# EAGLE library part PIC16F1825-I/SL (library Farnell-Microchip-PIC16F1825-I_SL)
IC, 8BIT MCU, PIC16F, 32MHz, SOIC-14
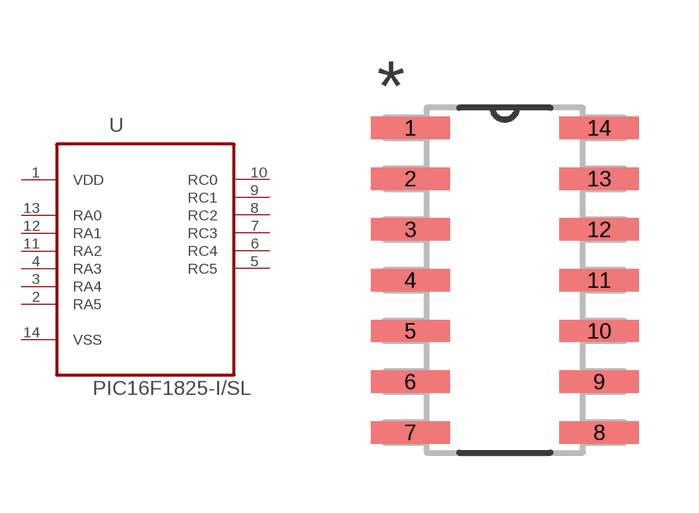
[diagram p0: symbol with the pads of SOIC127P600X175-14N; footprint SOIC127P600X175-14N]

Designator prefix U

## PIC16F1825-I/SL (MPN: PIC16F1825-I/SL; OC_FARNELL: 1841448; OC_NEWARK: 82R4372; PACKAGE: SOIC-14; SUPPLIER: Microchip)  [SOIC127P600X175-14N]
1  VDD  pwr
2  RA5
3  RA4
4  RA3  in
5  RC5
6  RC4
7  RC3
8  RC2
9  RC1
10  RC0
11  RA2
12  RA1
13  RA0
14  VSS  pas

## Footprint SOIC127P600X175-14N (pad centres in mm)
smd 1.981 x 0.559: 1 -2.362,3.81; 2 -2.362,2.54; 3 -2.362,1.27; 4 -2.362,0; 5 -2.362,-1.27; 6 -2.362,-2.54; 7 -2.362,-3.81; 8 2.362,-3.81; 9 2.362,-2.54; 10 2.362,-1.27; 11 2.362,0; 12 2.362,1.27; 13 2.362,2.54; 14 2.362,3.81